# Altium footprint library UFLRSMT140.PcbLib: 1 footprints
Each footprint in its own frame and in the unit in brackets; x right, y up, seen from the top. Pads: shape width x height; smd on the part's side, far side on the other; paste and mask are expansions set on the pad; w line width, h text height; cw(c..) or ccw(c..) is an arc to the next point about the centre after c.
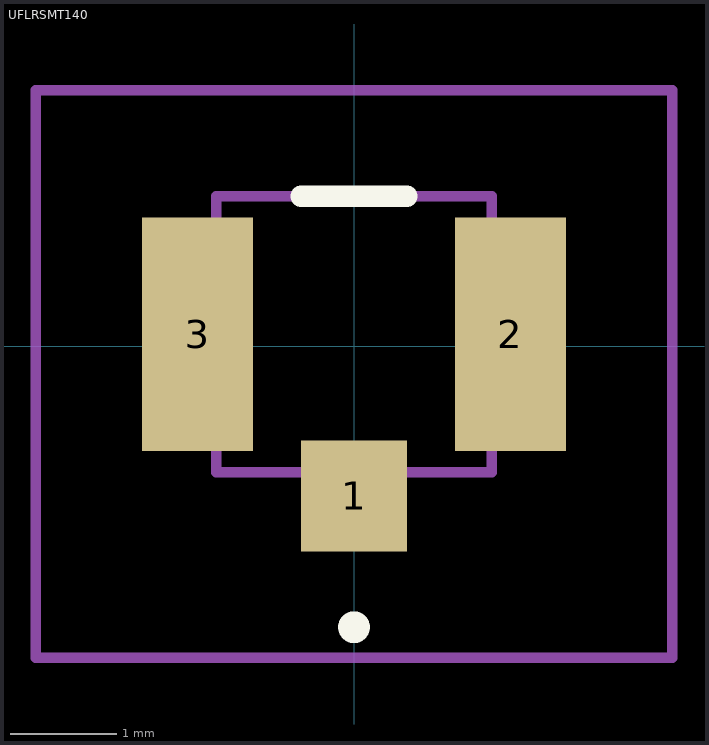
[diagram p0: the footprint, top view; thin cyan lines are the x and y axes]

## UFLRSMT140 [mm]
pads (3):
  rect 1x1.05 smd: 1(0,-1.413)
  rect 1.05x2.2 smd: 2(1.475,0.112) 3(-1.475,0.112)
Top Overlay:
  lines w0.2: -0.5,1.412 0.5,1.412 ; -0.5,1.412 0.5,1.412 ; -0.5,1.412 -0.5,1.412 ; 0,-2.7 0,-2.7 ; 0,-2.7 ccw(c0,-2.65) 0,-2.6 ; 0,-2.7 cw(c0,-2.65) 0,-2.6 ; 0,-2.7 0,-2.6 ; 0,-2.6 0,-2.6 ; 0.5,1.412 0.5,1.412
Mechanical 15:
  lines w0.1: -1.3,-1.188 1.3,-1.188 1.3,1.412 -1.3,1.412 -1.3,-1.188
Mechanical 20:
  lines w0.1: -3,-2.938 3,-2.938 3,2.412 -3,2.412 -3,-2.938